# EAGLE library part MR24WB0MA (library 1AA_Stofer)
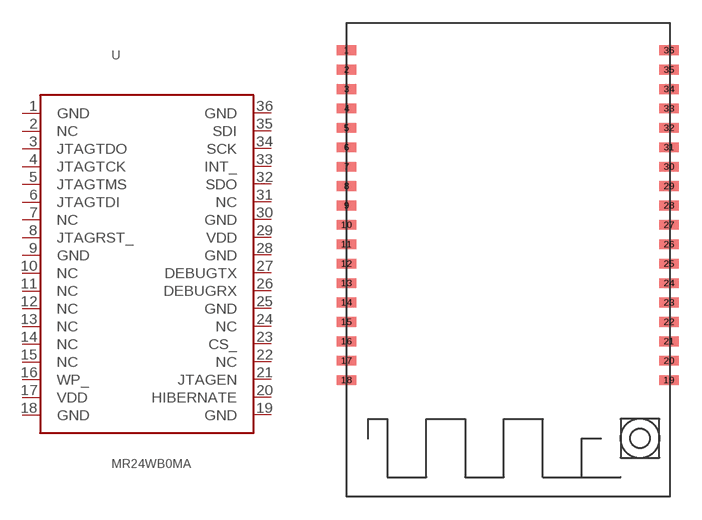
[diagram p30: symbol with the pads of MRF24W; footprint MRF24W]

Designator prefix -

## MR24WB0MA  [MRF24W]
1  GND
2  NC
3  JTAGTDO
4  JTAGTCK
5  JTAGTMS
6  JTAGTDI
7  NC
8  JTAGRST_
9  GND
10  NC
11  NC
12  NC
13  NC
14  NC
15  NC
16  WP_
17  VDD
18  GND
19  GND
20  HIBERNATE
21  JTAGEN
22  NC
23  CS_
24  NC
25  GND
26  DEBUGRX
27  DEBUGTX
28  GND
29  VDD
30  GND
31  NC
32  SDO
33  INT_
34  SCK
35  SDI
36  GND

## Footprint MRF24W (pad centres in mm)
smd 1.27 x 0.635: 1 -0.127,29.21; 2 -0.127,27.94; 3 -0.127,26.67; 4 -0.127,25.4; 5 -0.127,24.13; 6 -0.127,22.86; 7 -0.127,21.59; 8 -0.127,20.32; 9 -0.127,19.05; 10 -0.127,17.78; 11 -0.127,16.51; 12 -0.127,15.24; 13 -0.127,13.97; 14 -0.127,12.7; 15 -0.127,11.43; 16 -0.127,10.16; 17 -0.127,8.89; 18 -0.127,7.62; 19 20.955,7.62; 20 20.955,8.89; 21 20.955,10.16; 22 20.955,11.43; 23 20.955,12.7; 24 20.955,13.97; 25 20.955,15.24; 26 20.955,16.51; 27 20.955,17.78; 28 20.955,19.05; 29 20.955,20.32; 30 20.955,21.59; 31 20.955,22.86; 32 20.955,24.13; 33 20.955,25.4; 34 20.955,26.67; 35 20.955,27.94; 36 20.955,29.21